# EAGLE library part WM-N-BM-14 (library sparkfun_photon_temp)
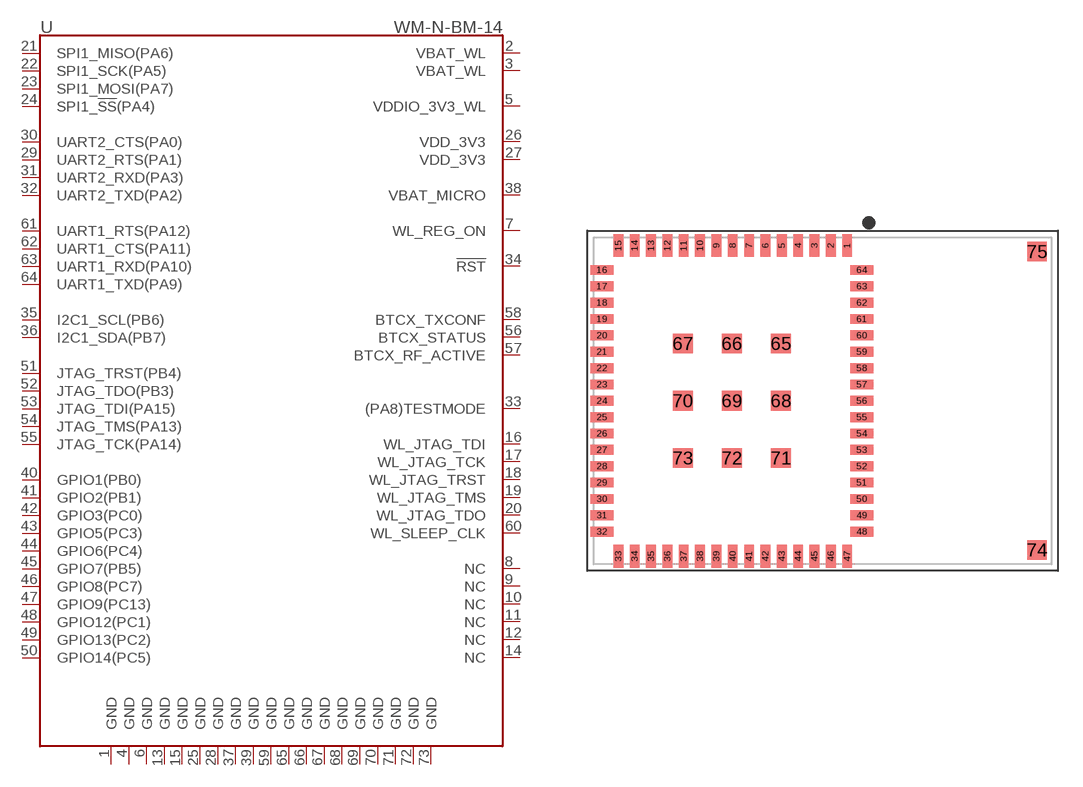
[diagram p2: symbol with the pads of WM-N-BM-14; footprint WM-N-BM-14]

Designator prefix U

## WM-N-BM-14 (PROD_ID: IC-12589)  [WM-N-BM-14]
1  GND
2  VBAT_WL
3  VBAT_WL
4  GND
5  VDDIO_3V3_WL
6  GND
7  WL_REG_ON
8  NC
9  NC
10  NC
11  NC
12  NC
13  GND
14  NC
15  GND
16  WL_JTAG_TDI
17  WL_JTAG_TCK
18  WL_JTAG_TRST
19  WL_JTAG_TMS
20  WL_JTAG_TDO
21  SPI1_MISO(PA6)
22  SPI1_SCK(PA5)
23  SPI1_MOSI(PA7)
24  SPI1_!SS!(PA4)
25  GND
26  VDD_3V3
27  VDD_3V3
28  GND
29  UART2_RTS(PA1)
30  UART2_CTS(PA0)
31  UART2_RXD(PA3)
32  UART2_TXD(PA2)
33  (PA8)TESTMODE
34  !RST!
35  I2C1_SCL(PB6)
36  I2C1_SDA(PB7)
37  GND
38  VBAT_MICRO
39  GND
40  GPIO1(PB0)
41  GPIO2(PB1)
42  GPIO3(PC0)
43  GPIO5(PC3)
44  GPIO6(PC4)
45  GPIO7(PB5)
46  GPIO8(PC7)
47  GPIO9(PC13)
48  GPIO12(PC1)
49  GPIO13(PC2)
50  GPIO14(PC5)
51  JTAG_TRST(PB4)
52  JTAG_TDO(PB3)
53  JTAG_TDI(PA15)
54  JTAG_TMS(PA13)
55  JTAG_TCK(PA14)
56  BTCX_STATUS
57  BTCX_RF_ACTIVE
58  BTCX_TXCONF
59  GND
60  WL_SLEEP_CLK
61  UART1_RTS(PA12)
62  UART1_CTS(PA11)
63  UART1_RXD(PA10)
64  UART1_TXD(PA9)
65  GND
66  GND
67  GND
68  GND
69  GND
70  GND
71  GND
72  GND
73  GND

## Footprint WM-N-BM-14 (pad centres in mm)
smd 0.6 x 1.4: 1 7.05,9.5; 2 6.05,9.5; 3 5.05,9.5; 4 4.05,9.5; 5 3.05,9.5; 6 2.05,9.5; 7 1.05,9.5; 8 0.05,9.5; 9 -0.95,9.5; 10 -1.95,9.5; 11 -2.95,9.5; 12 -3.95,9.5; 13 -4.95,9.5; 14 -5.95,9.5; 15 -6.95,9.5; 33 -6.95,-9.5; 34 -5.95,-9.5; 35 -4.95,-9.5; 36 -3.95,-9.5; 37 -2.95,-9.5; 38 -1.95,-9.5; 39 -0.95,-9.5; 40 0.05,-9.5; 41 1.05,-9.5; 42 2.05,-9.5; 43 3.05,-9.5; 44 4.05,-9.5; 45 5.05,-9.5; 46 6.05,-9.5; 47 7.05,-9.5
smd 1.4 x 0.6: 16 -7.95,8; 17 -7.95,7; 18 -7.95,6; 19 -7.95,5; 20 -7.95,4; 21 -7.95,3; 22 -7.95,2; 23 -7.95,1; 24 -7.95,0; 25 -7.95,-1; 26 -7.95,-2; 27 -7.95,-3; 28 -7.95,-4; 29 -7.95,-5; 30 -7.95,-6; 31 -7.95,-7; 32 -7.95,-8; 48 7.95,-8; 49 7.95,-7; 50 7.95,-6; 51 7.95,-5; 52 7.95,-4; 53 7.95,-3; 54 7.95,-2; 55 7.95,-1; 56 7.95,0; 57 7.95,1; 58 7.95,2; 59 7.95,3; 60 7.95,4; 61 7.95,5; 62 7.95,6; 63 7.95,7; 64 7.95,8
smd 1.2 x 1.2: 65 3,3.5; 66 0,3.5; 67 -3,3.5; 68 3,0; 69 0,0; 70 -3,0; 71 3,-3.5; 72 0,-3.5; 73 -3,-3.5; 74 18.67,-9.12; 75 18.67,9.12